# EAGLE library part STM32G031J (library SW_Microcontroller)
ARM® Cortex®-M0+ STM32G0 Microcontroller IC 32-Bit Single-Core 64MHz 32KB (32K x 8) FLASH 8-SOIC
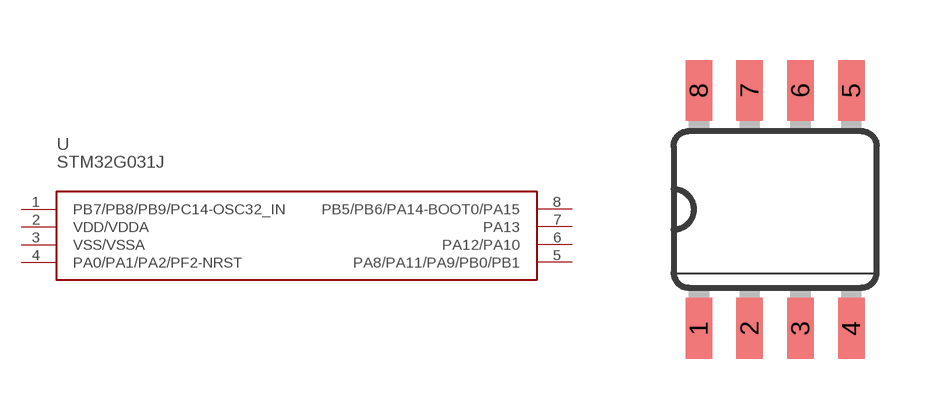
[diagram p12: symbol with the pads of SOIC-8; footprint SOIC-8]

Designator prefix U

## STM32G031J (CATEGORY: Microcontroller; MFGS: STMicroelectronics; MPNS: STM32G031J6M6; PACKAGE: SOIC-8; PART_NUMBER: STM32G031J6M6)  [SOIC-8]
1  PB7/PB8/PB9/PC14-OSC32_IN
2  VDD/VDDA
3  VSS/VSSA
4  PA0/PA1/PA2/PF2-NRST  pwr
5  PA8/PA11/PA9/PB0/PB1
6  PA12/PA10
7  PA13
8  PB5/PB6/PA14-BOOT0/PA15  pwr

## Footprint SOIC-8 (pad centres in mm)
smd 0.66 x 1.524: 1 -1.905,-2.973; 2 -0.635,-2.973; 3 0.635,-2.973; 4 1.905,-2.973; 5 1.905,2.973; 6 0.635,2.973; 7 -0.635,2.973; 8 -1.905,2.973